# EAGLE library part DEBUGHEADER (library EE)
DEBUG HEADER
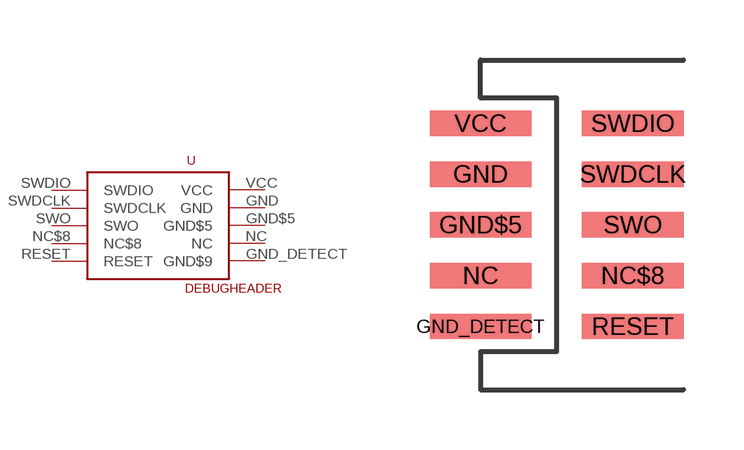
[diagram p1: symbol with the pads of NRF52-P19-CONNECTOR; footprint NRF52-P19-CONNECTOR]

Designator prefix -

## DEBUGHEADER (VALUE: Debug)  [NRF52-P19-CONNECTOR]
GND  GND
GND$5  GND$5
GND_DETECT  GND$9
NC  NC
NC$8  NC$8
RESET  RESET
SWDCLK  SWDCLK
SWDIO  SWDIO
SWO  SWO
VCC  VCC

## Footprint NRF52-P19-CONNECTOR (pad centres in mm)
smd 2.54 x 0.635: GND -2.54,5.08; GND$5 -2.54,3.81; GND_DETECT -2.54,1.27; NC -2.54,2.54; NC$8 1.27,2.54; RESET 1.27,1.27; SWDCLK 1.27,5.08; SWDIO 1.27,6.35; SWO 1.27,3.81; VCC -2.54,6.35